# EAGLE library part CAM-M8Q-0 (library CAM-M8Q-0)
u-blox M8 GNSS Antenna Module*Flash*TCXO
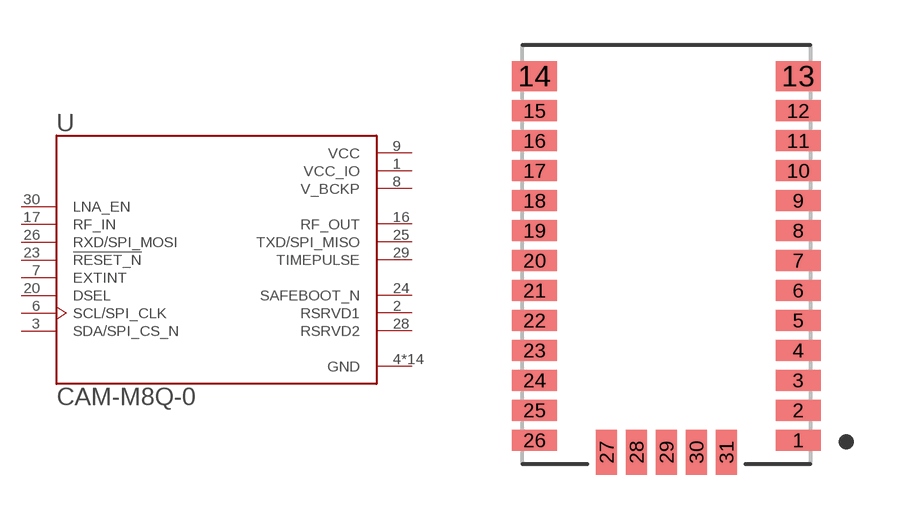
[diagram p0: symbol with the pads of LCC100P960X1400X210-31N; footprint LCC100P960X1400X210-31N]

Designator prefix U

## CAM-M8Q-0 (Description: CAM-M8 RF Receiver BeiDou, GLONASS, GNSS, GPS 1.575GHz -167dBm On-Board, Chip Module; Digi-Key_Part_Number: 672-CAM-M8Q-0-10CT-ND; Digi-Key_Purchase_URL: https://www.digikey.com/product-detail/en/u-blox-america-inc/CAM-M8Q-0-10/672-CAM-M8Q-0-10CT-ND/6150676?utm_source=snapeda&utm_medium=aggregator&utm_campaign=symbol; MF: U-Blox America; MP: CAM-M8Q-0; Package: SMD-31 u-blox)  [LCC100P960X1400X210-31N]
1  VCC_IO  pwr
2  RSRVD1  pas
3  SDA/SPI_CS_N
4  GND  pwr
5  GND  pwr
6  SCL/SPI_CLK  in
7  EXTINT  in
8  V_BCKP  pwr
9  VCC  pwr
10  GND  pwr
11  GND  pwr
12  GND  pwr
13  GND  pwr
14  GND  pwr
15  GND  pwr
16  RF_OUT  out
17  RF_IN  in
18  GND  pwr
19  GND  pwr
20  DSEL  in
21  GND  pwr
22  GND  pwr
23  !RESET_N  in
24  SAFEBOOT_N  pas
25  TXD/SPI_MISO  out
26  RXD/SPI_MOSI  in
27  GND  pwr
28  RSRVD2  pas
29  TIMEPULSE  out
30  LNA_EN  in
31  GND  pwr

## Footprint LCC100P960X1400X210-31N (pad centres in mm)
smd 1.5 x 0.7: 1 4.4,-6.2; 2 4.4,-5.2; 3 4.4,-4.2; 4 4.4,-3.2; 5 4.4,-2.2; 6 4.4,-1.2; 7 4.4,-0.2; 8 4.4,0.8; 9 4.4,1.8; 10 4.4,2.8; 11 4.4,3.8; 12 4.4,4.8; 15 -4.4,4.8; 16 -4.4,3.8; 17 -4.4,2.8; 18 -4.4,1.8; 19 -4.4,0.8; 20 -4.4,-0.2; 21 -4.4,-1.2; 22 -4.4,-2.2; 23 -4.4,-3.2; 24 -4.4,-4.2; 25 -4.4,-5.2; 26 -4.4,-6.2
smd 1.5 x 1: 13 4.4,5.95; 14 -4.4,5.95
smd 0.7 x 1.5: 27 -2,-6.6; 28 -1,-6.6; 29 0,-6.6; 30 1,-6.6; 31 2,-6.6